# Altium footprint library Otros.PcbLib: 13 footprints
Each footprint in its own frame and in the unit in brackets; x right, y up, seen from the top. Pads: shape width x height; smd on the part's side, far side on the other; paste and mask are expansions set on the pad; w line width, h text height; cw(c..) or ccw(c..) is an arc to the next point about the centre after c.
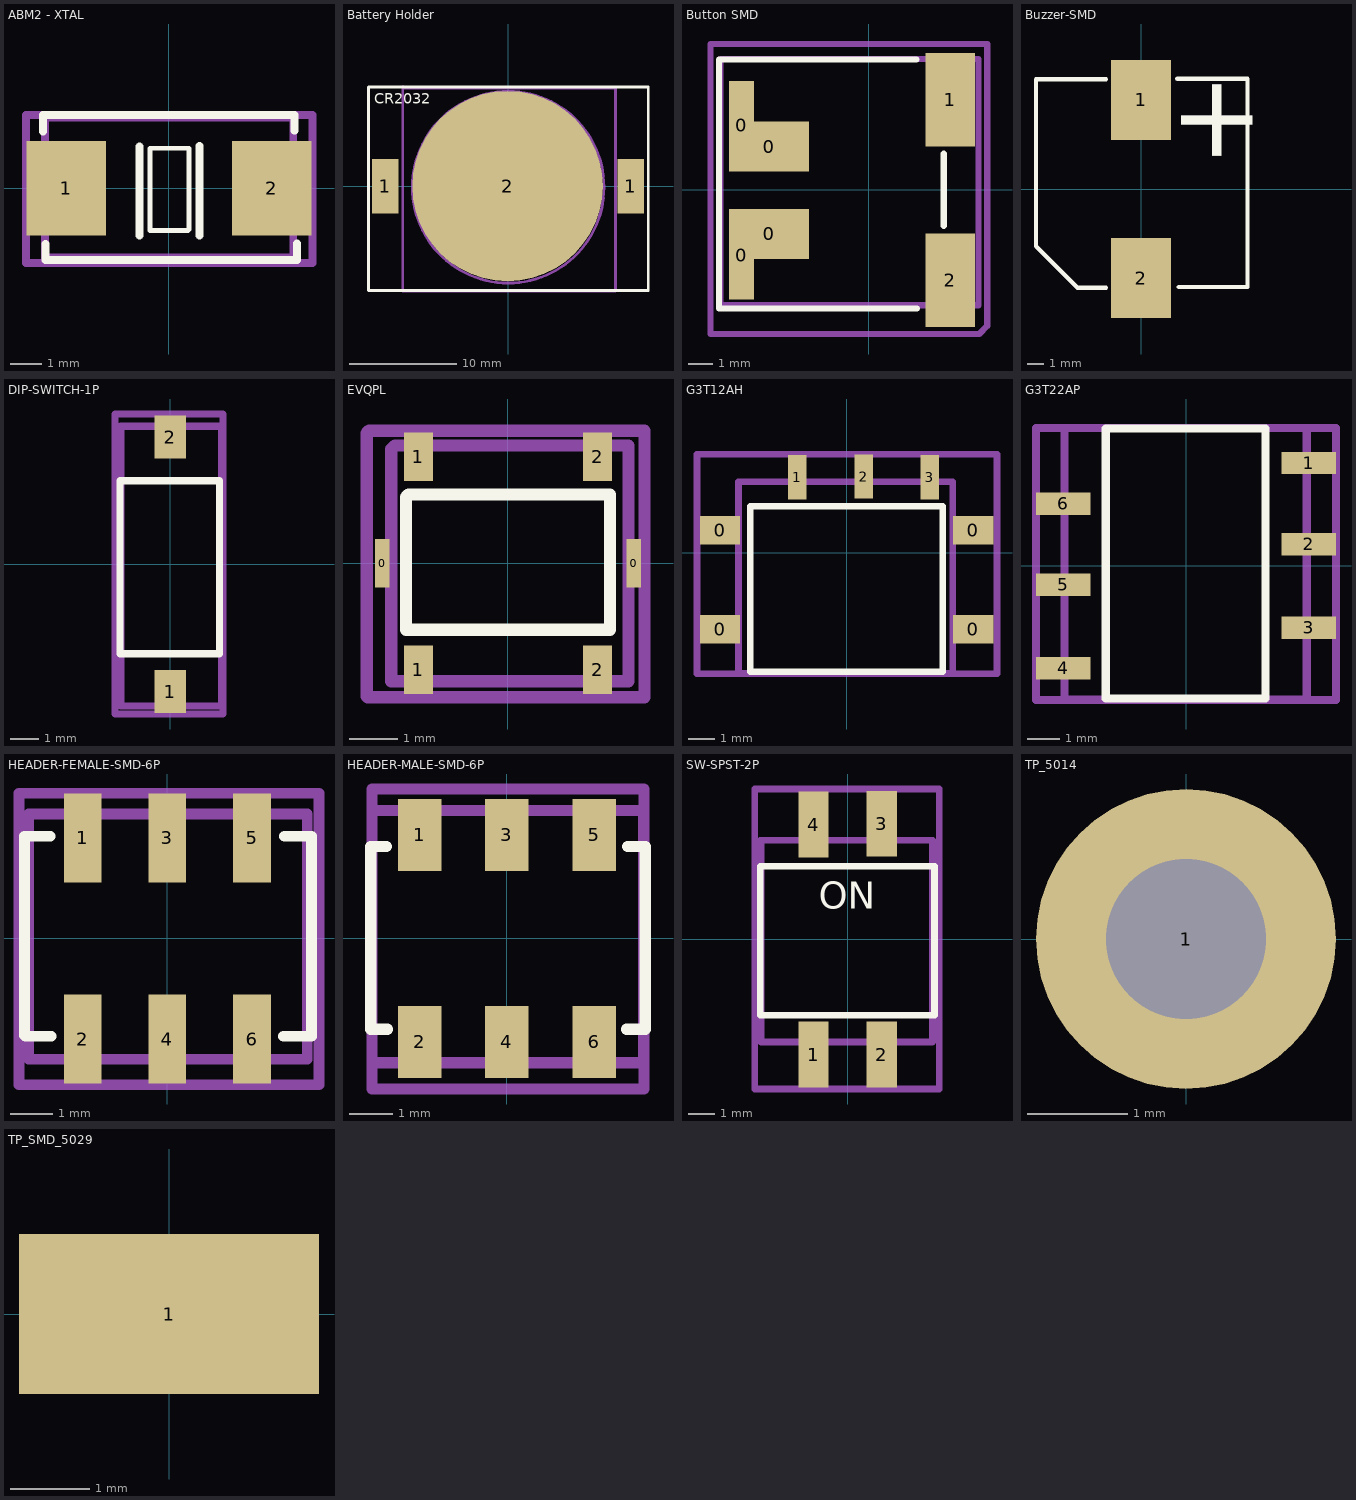
[diagram p0: the footprints below, top view; thin cyan lines are the x and y axes]

## ABM2 - XTAL [mm] "Surface Mount 2-SMD, No Lead"
pads (2):
  rect 2.524x3 smd: 1(-3.274,0) 2(3.274,0)
Top Overlay:
  lines w0.154: 0.612,-1.346 -0.607,-1.346 -0.607,1.27 0.638,1.27 0.638,-1.321
  lines w0.254: -4.011,1.803 -4.011,2.337 3.99,2.337 3.99,1.829 ; -3.934,-1.778 -3.934,-2.286 4.067,-2.286 4.067,-1.753 ; -0.94,1.321 -0.937,-1.499 ; 0.968,-1.499 0.968,1.346
Mechanical 13:
  lines w0.254: -4.025,2.246 3.954,2.246 3.954,-2.199 -3.947,-2.199 -3.947,2.301
Mechanical 15:
  lines w0.254: -4.544,-2.388 4.575,-2.388 4.575,2.337 -4.544,2.337 -4.544,-2.388
3D body: height 1.4, standoff 0, extent -3.947,-2.199 4.053,2.301

## Battery Holder [mm] "Battery holder CR2032, CR2025 surface mount"
pads (3):
  rect 2.5x5.1 smd: 1(-11.463,0) 1(11.463,0)
  round 17.8 smd: 2(-0.038,0)
Top Overlay:
  lines w0.254: -13.037,-9.754 13.099,-9.754 13.099,9.271 -13.037,9.271 -13.037,-9.754
  text "CR2032" at -12.479,7.696 h1
Mechanical 13:
  circle w0.254: c0.018,-0.102 r8.954
Mechanical 15:
  lines w0.254: -9.837,9.144 10.051,9.144 10.051,-9.804 -9.837,-9.804 -9.837,9.271
3D body: height 3.96, standoff 0, extent -15.405,-9.779 15.329,10.274

## Button SMD [mm] "Pushbutton Switch SPST-NO Standard Surface Mount, Right Angle"
pads (6):
  rect 1.02x3.63 smd: 0(-5.182,-2.656) 0(-5.182,2.631)
  rect 3.25x2.03 smd: 0(-4.065,-1.793) 0(-4.065,1.767)
  rect 2.03x3.81 smd: 1(3.316,3.672) 2(3.316,-3.672)
Top Overlay:
  lines w0.254: 1.93,5.309 -6.096,5.309 -6.096,-4.826 1.956,-4.826 ; 3.048,-1.454 3.048,1.473
Mechanical 13:
  lines w0.254: -6.045,-4.699 -6.045,5.334 4.47,5.334 4.47,-4.699 -6.045,-4.699
Mechanical 15:
  lines w0.254: -6.452,-5.867 -6.452,5.944 4.826,5.944 4.826,-5.537 4.496,-5.867 -6.452,-5.867
3D body: height 6.2, standoff -0.03, extent -15.132,-4.761 4.318,5.219

## Buzzer-SMD [mm] "DC Buzzer Single Tone 2.4kHz Magnetic 4 ~ 7V 90dB @ 5V, 10cm"
pads (2):
  rect 3.6x4.8 smd: 1(0,5.335) 2(0,-5.335)
Top Overlay:
  lines w0.254: -2.108,-5.918 -3.81,-5.918 -6.299,-3.429 -6.299,6.579 -2.108,6.579 ; 2.159,6.604 6.375,6.604 6.375,-5.867 2.261,-5.867
  text "+" at 6.68,1.245 h5
3D body: height 4.95, standoff -0.05, extent -4.622,-4.724 4.978,5.276

## DIP-SWITCH-1P [mm] "Dip Switch SPST 1 Position Surface Mount Slide (Standard) Actuator"
pads (2):
  rect 1.1x1.5 smd: 1(0,-4.45) 2(0,4.45)
Top Overlay:
  lines w0.254: -1.753,-3.124 -1.753,2.921 1.727,2.921 1.727,-3.124 -1.753,-3.124
Mechanical 13:
  lines w0.254: -1.727,-4.953 1.803,-4.953 1.803,4.826 -1.727,4.826 -1.727,-4.953
Mechanical 15:
  lines w0.254: -1.93,-5.232 1.854,-5.232 1.854,5.258 -1.93,5.258 -1.93,-5.232
3D body: height 4.4, standoff 0, extent -1.765,-5.002 1.715,4.798

## EVQPL [mm] "Panasonic EVQPL Tactile Switch"
pads (6):
  rect 0.3x1 smd: 0(-2.6,0) 0(2.6,0)
  rect 0.6x1 smd: 1(-1.85,-2.2) 1(-1.85,2.2) 2(1.85,-2.2) 2(1.85,2.2)
Top Overlay:
  lines w0.254: -2.108,-1.372 2.108,-1.372 2.108,1.422 -2.057,1.422 -2.108,1.372 -2.108,-1.372
Mechanical 13:
  lines w0.254: -2.413,-2.438 2.489,-2.438 2.489,2.438 -2.337,2.438 -2.413,2.362 -2.413,-2.438
Mechanical 15:
  lines w0.254: -2.921,-2.743 -2.896,-2.769 2.819,-2.769 2.819,2.743 -2.87,2.743 -2.921,2.692 -2.921,-2.743
3D body: height 1.5, standoff 0, extent -2.438,-2.548 2.462,2.446

## G3T12AH [mm] "Toggle Switch SPDT Surface Mount, Right Angle"
pads (7):
  rect 1.55x1.1 smd: 0(-4.875,-2.941) 0(-4.875,0.884) 0(4.875,-2.941) 0(4.875,0.884)
  rect 0.7x1.7 smd: 1(-1.903,2.916) 2(0.662,2.941) 3(3.202,2.916)
Top Overlay:
  lines w0.254: -3.707,-4.577 3.71,-4.577 3.71,1.798 -3.707,1.798 -3.707,-4.577
Mechanical 13:
  lines w0.254: -4.164,-4.628 4.091,-4.628 4.091,2.738 -4.164,2.738 -4.164,-4.628
Mechanical 15:
  lines w0.254: -5.764,-4.653 -5.764,3.805 5.793,3.805 5.793,-4.653 -5.764,-4.653
3D body: height 5.56, standoff -0.01, extent -5.472,-9.976 5.526,3.424

## G3T22AP [mm] "Toggle Switch DPDT Surface Mount"
pads (6):
  rect 1.7x0.7 smd: 1(3.85,3.213) 2(3.85,0.673) 3(3.85,-1.943) 4(-3.85,-3.213) 5(-3.85,-0.597) 6(-3.85,1.943)
Top Overlay:
  lines w0.254: -2.515,-4.166 2.489,-4.166 2.489,4.293 -2.515,4.293 -2.515,-4.166
Mechanical 13:
  lines w0.254: -3.812,-4.191 -3.812,4.318 3.783,4.318 3.783,-4.191 -3.812,-4.191
Mechanical 15:
  lines w0.254: -4.699,-4.216 -4.699,4.318 4.699,4.318 4.699,-4.216 -4.699,-4.216
3D body: height 12.95, standoff 0.01, extent -3.812,-4.191 3.783,4.318

## HEADER-FEMALE-SMD-6P [mm] "6 Position Receptacle, Bottom or Top Entry Connector Gold 2.00mm Surface Mount"
pads (6):
  rect 0.89x2.1 smd: 1(-2,2.375) 2(-2,-2.375) 3(0,2.375) 4(0,-2.375) 5(2,2.375) 6(2,-2.375)
Top Overlay:
  lines w0.254: -2.769,2.413 -3.378,2.413 -3.378,-2.286 -3.353,-2.311 -2.743,-2.311 ; 2.743,-2.311 3.404,-2.311 ; 2.769,2.413 3.404,2.413 ; 3.404,-2.286 3.404,2.388
Mechanical 13:
  lines w0.254: -3.277,-2.853 3.302,-2.853 3.302,2.938 -3.277,2.938 -3.277,-2.853
Mechanical 15:
  lines w0.254: -3.505,-3.454 3.581,-3.454 3.581,3.429 -3.505,3.429 -3.505,-3.454
3D body: height 4.3, standoff 0.01, extent -3.224,-3.062 3.276,3.164

## HEADER-MALE-SMD-6P [mm] "6 Positions Header, Cuttable Connector 2.00mm Surface Mount Gold"
pads (6):
  rect 1x1.65 smd: 1(-2,2.375) 2(-2,-2.375) 3(0,2.375) 4(0,-2.375) 5(2,2.375) 6(2,-2.375)
Top Overlay:
  lines w0.254: -2.769,2.108 -3.124,2.108 -3.124,-2.083 -2.743,-2.083 ; 2.743,-2.083 3.175,-2.083 3.175,2.108 2.769,2.108
Mechanical 13:
  lines w0.254: -3.099,-2.853 3.132,-2.853 3.132,2.938 -3.099,2.938 -3.099,-2.853
Mechanical 15:
  lines w0.254: -3.099,-3.454 3.15,-3.454 3.15,3.429 -3.099,3.429 -3.099,-3.454
3D body: height 6, standoff 0, extent -3,-2.812 3,2.938

## SW-SPST-2P [mm] "Dip Switch SPST 2 Position Surface Mount Slide (Standard) Actuator 100mA 20VDC"
pads (4):
  rect 1.13x2.44 smd: 1(-1.27,-4.287) 2(1.27,-4.287) 3(1.27,4.287) 4(-1.27,4.262)
Top Overlay:
  lines w0.254: -3.251,-2.825 3.226,-2.825 3.226,2.713 -3.251,2.713 -3.251,-2.825
  text "ON" at -1.067,1.138 h1
Mechanical 13:
  lines w0.254: -3.251,3.678 3.15,3.678 3.15,-3.815 -3.226,-3.815 -3.226,3.652
Mechanical 15:
  lines w0.254: -3.454,-5.568 3.404,-5.568 3.404,5.583 -3.454,5.583 -3.454,-5.568
3D body: height 4.35, standoff 0.05, extent -3.275,-4.988 3.275,4.922

## TP_5014 [mm] "TEST POINT PC MULTI PURPOSE YEL, Keystone Electronics 5014"
pads (1):
  round 3 hole 1.6: 1(0,0)
3D body: height 8.13, standoff -3.1, extent -1.6,-1.6 1.575,1.575

## TP_SMD_5029 [mm] "PC TEST POINT MINI SMD, Keystone Electronics 5029"
pads (1):
  rect 3.8x2.03 smd: 1(0,0)
3D body: height 2.16, standoff -0.13, extent -1.905,-1.016 1.905,1.016